# EAGLE library part TMS626812 (library Signetics)
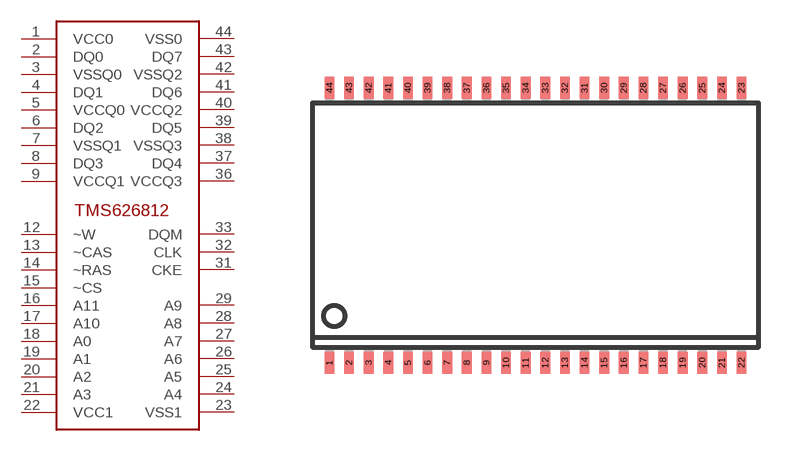
[diagram p4: symbol with the pads of TSOP44-II; footprint TSOP44-II]

Designator prefix -

## TMS626812  [TSOP44-II]
1  VCC0
2  DQ0
3  VSSQ0
4  DQ1
5  VCCQ0
6  DQ2
7  VSSQ1
8  DQ3
9  VCCQ1
12  ~W
13  ~CAS
14  ~RAS
15  ~CS
16  A11
17  A10
18  A0
19  A1
20  A2
21  A3
22  VCC1
23  VSS1
24  A4
25  A5
26  A6
27  A7
28  A8
29  A9
31  CKE
32  CLK
33  DQM
36  VCCQ3
37  DQ4
38  VSSQ3
39  DQ5
40  VCCQ2
41  DQ6
42  VSSQ2
43  DQ7
44  VSS0

## Footprint TSOP44-II (pad centres in mm)
44 lead Plastic Thin Small Outline Type II Source: http://us.st.com/stonline/products/literature/ds/7995.pdf
smd 0.4 x 0.9: 1 -8.4,-5.6; 2 -7.6,-5.6; 3 -6.8,-5.6; 4 -6,-5.6; 5 -5.2,-5.6; 6 -4.4,-5.6; 7 -3.6,-5.6; 8 -2.8,-5.6; 9 -2,-5.6; 10 -1.2,-5.6; 11 -0.4,-5.6; 12 0.4,-5.6; 13 1.2,-5.6; 14 2,-5.6; 15 2.8,-5.6; 16 3.6,-5.6; 17 4.4,-5.6; 18 5.2,-5.6; 19 6,-5.6; 20 6.8,-5.6; 21 7.6,-5.6; 22 8.4,-5.6; 23 8.4,5.6; 24 7.6,5.6; 25 6.8,5.6; 26 6,5.6; 27 5.2,5.6; 28 4.4,5.6; 29 3.6,5.6; 30 2.8,5.6; 31 2,5.6; 32 1.2,5.6; 33 0.4,5.6; 34 -0.4,5.6; 35 -1.2,5.6; 36 -2,5.6; 37 -2.8,5.6; 38 -3.6,5.6; 39 -4.4,5.6; 40 -5.2,5.6; 41 -6,5.6; 42 -6.8,5.6; 43 -7.6,5.6; 44 -8.4,5.6